# Altium footprint library PcbLib.PcbLib: 285 footprints (part 5 of 18)
Each footprint in its own frame and in the unit in brackets; x right, y up, seen from the top. Pads: shape width x height; smd on the part's side, far side on the other; paste and mask are expansions set on the pad; w line width, h text height; cw(c..) or ccw(c..) is an arc to the next point about the centre after c.
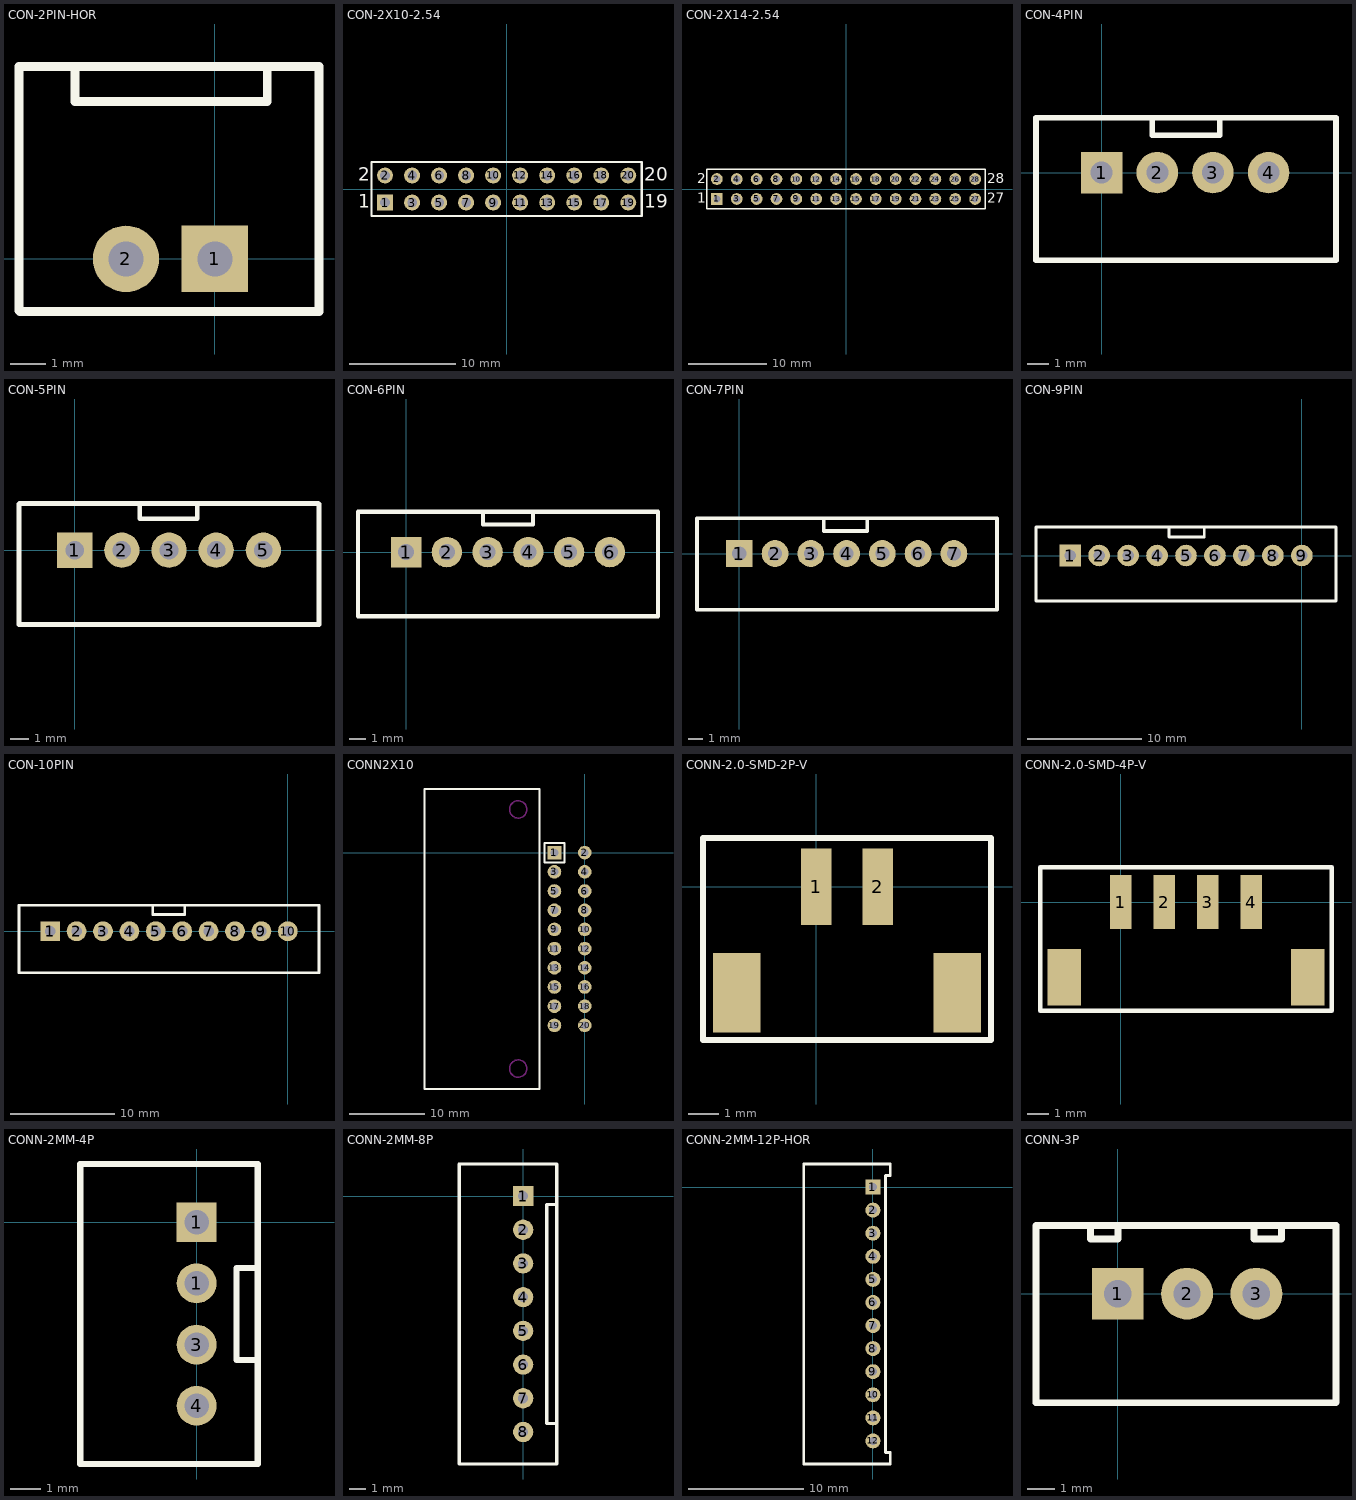
[diagram p4: the footprints below, top view; thin cyan lines are the x and y axes]

## CON-2PIN-HOR [mm]
pads (2):
  rect 1.9x1.9 hole 1: 1(0,0)
  round 1.9 hole 1: 2(-2.54,0)
Top Overlay:
  lines w0.254: -5.6,-1.48 -5.6,5.5 ; -5.58,-1.5 2.98,-1.5 2.98,5.5 -5.6,5.5 ; -5.58,5.48 -5.6,5.5 ; -4,5.5 -4,4.5 1.5,4.5 1.5,5.5

## CON-2X10-2.54 [mm] "Connector; Header; 10x2 Position"
pads (20):
  rect 1.5x1.5 hole 0.9: 1(-11.43,-1.27)
  round 1.5 hole 0.9: 2(-11.43,1.27) 3(-8.89,-1.27) 4(-8.89,1.27) 5(-6.35,-1.27) 6(-6.35,1.27) 7(-3.81,-1.27) 8(-3.81,1.27) 9(-1.27,-1.27) 10(-1.27,1.27) 11(1.27,-1.27) 12(1.27,1.27) 13(3.81,-1.27) 14(3.81,1.27) 15(6.35,-1.27) 16(6.35,1.27) 17(8.89,-1.27) 18(8.89,1.27) 19(11.43,-1.27) 20(11.43,1.27)
Top Overlay:
  lines w0.2: -12.7,-2.54 -10.795,-2.54 12.7,-2.54 12.7,2.54 -10.795,2.54 -12.7,2.54 -12.7,-2.54
  text "20" at 12.954,0.762 h1.27
  text "19" at 12.954,-1.778 h1.27
  text "1" at -13.97,-1.778 h1.27
  text "2" at -13.97,0.762 h1.27

## CON-2X14-2.54 [mm] "Connector; Header; 14x2 Position"
pads (28):
  rect 1.5x1.5 hole 0.9: 1(-16.51,-1.27)
  round 1.5 hole 0.9: 2(-16.51,1.27) 3(-13.97,-1.27) 4(-13.97,1.27) 5(-11.43,-1.27) 6(-11.43,1.27) 7(-8.89,-1.27) 8(-8.89,1.27) 9(-6.35,-1.27) 10(-6.35,1.27) 11(-3.81,-1.27) 12(-3.81,1.27) 13(-1.27,-1.27) 14(-1.27,1.27) 15(1.27,-1.27) 16(1.27,1.27) 17(3.81,-1.27) 18(3.81,1.27) 19(6.35,-1.27) 20(6.35,1.27) 21(8.89,-1.27) 22(8.89,1.27) 23(11.43,-1.27) 24(11.43,1.27) 25(13.97,-1.27) 26(13.97,1.27) 27(16.51,-1.27) 28(16.51,1.27)
Top Overlay:
  lines w0.2: -17.78,-2.54 17.78,-2.54 17.78,2.54 -17.78,2.54 -17.78,-2.54
  text "28" at 18.034,0.762 h1.27
  text "27" at 18.034,-1.778 h1.27
  text "1" at -19.05,-1.778 h1.27
  text "2" at -19.05,0.762 h1.27

## CON-4PIN [mm]
pads (4):
  rect 1.9x1.9 hole 1: 1(0,0)
  round 1.9 hole 1: 2(2.54,0) 3(5.08,0) 4(7.62,0)
Top Overlay:
  lines w0.254: -3,-0.01 -3,-4 10.7,-4 10.7,2.5 -3,2.5 -3,0 ; 2.3,2.46 2.3,1.7 5.4,1.7 5.4,2.49

## CON-5PIN [mm]
pads (5):
  rect 1.9x1.9 hole 1: 1(0,0)
  round 1.9 hole 1: 2(2.54,0) 3(5.08,0) 4(7.62,0) 5(10.16,0)
Top Overlay:
  lines w0.254: -3,-0.01 -3,-4 13.1,-4 13.16,-4 13.16,2.5 ; -3,0 -3,2.5 ; -2.99,2.51 13.11,2.51 ; 3.5,2.46 3.5,1.7 6.6,1.7 6.6,2.49

## CON-6PIN [mm]
pads (6):
  rect 1.9x1.9 hole 1: 1(0,0)
  round 1.9 hole 1: 2(2.54,0) 3(5.08,0) 4(7.62,0) 5(10.16,0) 6(12.7,0)
Top Overlay:
  lines w0.254: -3,-0.01 -3,-4 13.1,-4 15.7,-4 15.7,2.5 ; -3,0 -3,2.5 ; -2.99,2.51 13.11,2.51 15.69,2.51 ; 4.8,2.47 4.8,1.71 7.9,1.71 7.9,2.5

## CON-7PIN [mm]
pads (7):
  rect 1.9x1.9 hole 1: 1(0,0)
  round 1.9 hole 1: 2(2.54,0) 3(5.08,0) 4(7.62,0) 5(10.16,0) 6(12.7,0) 7(15.24,0)
Top Overlay:
  lines w0.254: -3,-0.01 -3,-4 13.1,-4 18.3,-4 18.3,2.51 13.11,2.51 -2.99,2.51 ; -3,0 -3,2.5 ; 6,2.36 6,1.6 9.1,1.6 9.1,2.39

## CON-9PIN [mm]
pads (9):
  rect 1.9x1.9 hole 1: 1(-20.32,0)
  round 1.9 hole 1: 2(-17.78,0) 3(-15.24,0) 4(-12.7,0) 5(-10.16,0) 6(-7.62,0) 7(-5.08,0) 8(-2.54,0) 9(0,0)
Top Overlay:
  lines w0.254: -23.32,-0.01 -23.32,-4 -7.22,-4 3,-4 3,2.51 -7.21,2.51 -23.31,2.51 ; -23.32,0 -23.32,2.5 ; -11.66,2.37 -11.66,1.61 -8.56,1.61 -8.56,2.4

## CON-10PIN [mm]
pads (10):
  rect 1.9x1.9 hole 1: 1(-22.86,0)
  round 1.9 hole 1: 2(-20.32,0) 3(-17.78,0) 4(-15.24,0) 5(-12.7,0) 6(-10.16,0) 7(-7.62,0) 8(-5.08,0) 9(-2.54,0) 10(0,0)
Top Overlay:
  lines w0.254: -25.86,-0.01 -25.86,-4 -9.76,-4 3,-4 3,2.51 -9.75,2.51 -25.85,2.51 ; -25.86,0 -25.86,2.5 ; -13,2.37 -13,1.61 -9.9,1.61 -9.9,2.4

## CONN2X10 [mm]
pads (20):
  rect 1.8x1.8 hole 1: 1(-4,0)
  round 1.8 hole 1: 2(0,0) 3(-4,-2.54) 4(0,-2.54) 5(-4,-5.08) 6(0,-5.08) 7(-4,-7.62) 8(0,-7.62) 9(-4,-10.16) 10(0,-10.16) 11(-4,-12.7) 12(0,-12.7) 13(-4,-15.24) 14(0,-15.24) 15(-4,-17.78) 16(0,-17.78) 17(-4,-20.32) 18(0,-20.32) 19(-4,-22.86) 20(0,-22.86)
Top Overlay:
  lines w0.01: -6,-29.68 -6,0
  lines w0.254: -21.2,-31.28 -6,-31.28 -6,8.42 -21.2,8.42 -21.2,-31.28 ; -5.3,-1.3 -5.3,1.3 -5,1.3 -2.7,1.3 -2.7,-1.3 -5.3,-1.3
Keep-Out Layer:
  circle w0.2: c-8.8,-28.58 r1.15
  circle w0.2: c-8.8,5.72 r1.15

## CONN-2.0-SMD-2P-V [mm]
pads (4):
  rect 1x2.5 smd: 1(0,0) 2(2,0)
  rect 1.55x2.6 smd: ""(-2.6,-3.45) ""(4.6,-3.45)
Top Overlay:
  lines w0.2: 0.9,1.6 5.7,1.6 5.7,-5 -3.6,-5 -3.7,-5 -3.7,1.6 1.2,1.6

## CONN-2.0-SMD-4P-V [mm]
pads (6):
  rect 1x2.5 smd: 1(0,0) 2(2,0) 3(4,0) 4(6,0)
  rect 1.55x2.6 smd: ""(-2.6,-3.45) ""(8.6,-3.45)
Top Overlay:
  lines w0.2: 0.9,1.6 5.7,1.6 9.7,1.6 9.7,-5 5.3,-5 ; 1.2,1.6 -3.7,1.6 -3.7,-5 -3.6,-5 5.7,-5

## CONN-2MM-4P [mm]
pads (4):
  round 1.3 hole 0.8: 1(0,-2) 3(0,-4) 4(0,-6)
  rect 1.3x1.3 hole 0.8: 1(0,0)
Top Overlay:
  lines w0.2: 1.9,-4.5 1.3,-4.5 1.3,-1.5 2,-1.5 ; -3.8,1.9 -3.8,1.9 ; -3.8,1.9 2,1.9 2,-7.9 -3.8,-7.9 -3.8,1.9

## CONN-2MM-8P [mm]
pads (8):
  rect 1.2x1.2 hole 0.6: 1(0,0)
  round 1.2 hole 0.6: 2(0,-2) 3(0,-4) 4(0,-6) 5(0,-8) 6(0,-10) 7(0,-12) 8(0,-14)
Top Overlay:
  lines w0.2: -3.8,1.9 2,1.9 2,-0.5 ; -3.8,1.9 -3.8,1.9 ; -3.8,1.9 -3.8,-15.9 2,-15.9 2,-13.5 ; 2,-13.5 2,-0.5 ; 2,-13.5 1.4,-13.5 1.4,-0.5 2,-0.5

## CONN-2MM-12P-HOR [mm]
pads (12):
  rect 1.3x1.3 hole 0.7: 1(0,0)
  round 1.3 hole 0.7: 2(0,-2) 3(0,-4) 4(0,-6) 5(0,-8) 6(0,-10) 7(0,-12) 8(0,-14) 9(0,-16) 10(0,-18) 11(0,-20) 12(0,-22)
Top Overlay:
  lines w0.254: -6,-24 1.5,-24 1.5,-23 1.1,-23 1.1,1 1.5,1 1.5,2 -6,2 -6,-24

## CONN-3P [mm]
pads (3):
  rect 1.9x1.9 hole 1: 1(0,0)
  round 1.9 hole 1: 2(2.54,0) 3(5.08,0)
Top Overlay:
  lines w0.254: -3,-0.01 -3,-4 7.99,-4 ; -3,0 -3,2.5 7.99,2.5 ; -1,2.5 -1,2 0,2 0,2.5 ; 5,2.5 5,2 6,2 6,2.5 ; 8,-3.99 8,2.51